# EAGLE library part C8051F30* (library silabs-2)
25 MIPS, 8 kB Flash, 8-Bit ADC, 11-Pin Mixed-Signal MCU Source: http://www.silabs.com/products/microcontroller .. C8051F30xrev2_3.pdf
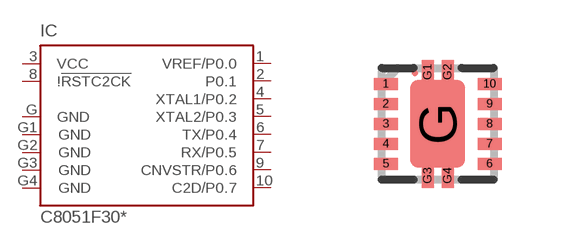
[diagram p0: symbol with the pads of MLP11; footprint MLP11]

Designator prefix IC

## C8051F300, C8051F301, C8051F302, C8051F303, C8051F304, C8051F305  [MLP11]
1  VREF/P0.0
2  P0.1
3  VCC  pwr
4  XTAL1/P0.2
5  XTAL2/P0.3
6  TX/P0.4
7  RX/P0.5
8  !!RSTC2CK  in
9  CNVSTR/P0.6
10  C2D/P0.7
G  GND  pwr
G1  GND  pwr
G2  GND  pwr
G3  GND  pwr
G4  GND  pwr

## Footprint MLP11 (pad centres in mm)
Tiny MLP package Source: http://www.silabs.com/products/microcontroller .. C8051F30xrev2_3.pdf
smd 0.6 x 0.3: 1 -1.3,1; 2 -1.3,0.5; 3 -1.3,0; 4 -1.3,-0.5; 5 -1.3,-1; 6 1.3,-1; 7 1.3,-0.5; 8 1.3,0; 9 1.3,0.5; 10 1.3,1
smd 1.36 x 2.2: G 0,0
smd 0.3 x 0.6: G1 -0.25,1.3; G2 0.25,1.3; G3 -0.25,-1.3; G4 0.25,-1.3